# EAGLE library part 52852-08* (library RoboJackets-Connectors)
Molex FPC Connector Brand: Molex <http://www.molex.com> Series: 52852 <http://www.mouser.com/Molex/FFC-FPC-Connectors/52852-Series/_/N-1z0zlewZaxjq6Z1yzuzoz> Distributor: Mouser <http://www.mouser.com/ProductDetail/Molex/52852-0870/?qs=kD7lmHUVEJanNvV6FphzIg==>
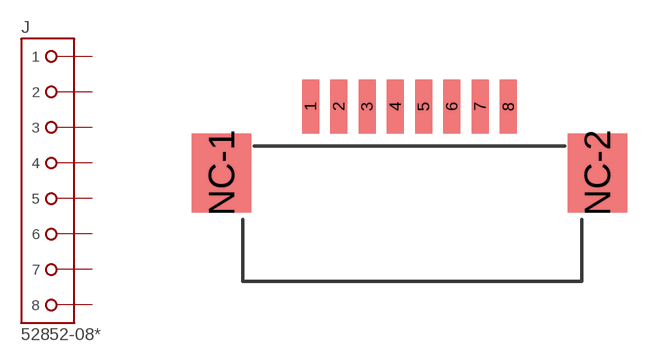
[diagram p4: symbol with the pads of 52852-08; footprint 52852-08]

Designator prefix J

## 52852-0870 (PINS: 8; PIN_PITCH: 1.0 mm)  [52852-08]
1  1  pas
2  2  pas
3  3  pas
4  4  pas
5  5  pas
6  6  pas
7  7  pas
8  8  pas

## Footprint 52852-08 (pad centres in mm)
smd 0.6 x 1.9: 1 -3,2.5; 2 -2,2.5; 3 -1,2.5; 4 0,2.5; 5 1,2.5; 6 2,2.5; 7 3,2.5; 8 4,2.5
smd 2.1 x 2.8: NC-1 -6.15,0.15; NC-2 7.15,0.15